# EAGLE library part LT1370HVCT7 (library TOPOBOT)
LT1370HVCT7 Componente LT1370HVCT7
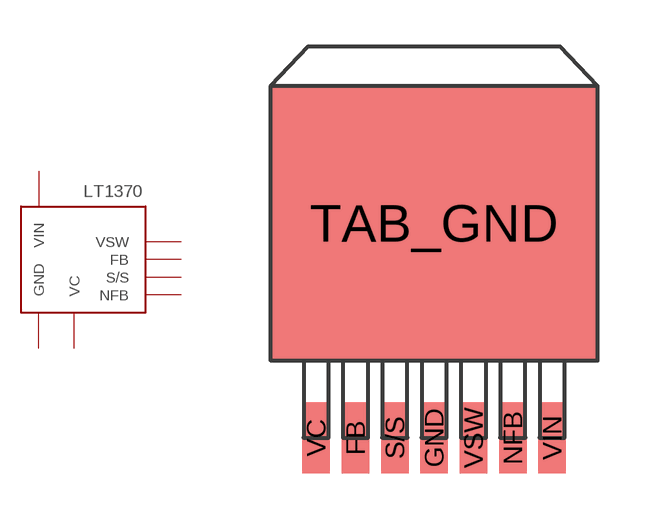
[diagram p0: symbol with the pads of LT1370HVCT7; footprint LT1370HVCT7]

Designator prefix -

## LT1370HVCT7  [LT1370HVCT7]
FB  FB
GND  GND
NFB  NFB
S/S  S/S
TAB_GND  GND
VC  VC
VIN  VIN
VSW  VSW

## Footprint LT1370HVCT7 (pad centres in mm)
DD Q7 Empaquetado DD Q7 del componente LT1370HVCT7
smd 0.889 x 2.286: FB -2.54,0; GND 0,0; NFB 2.54,0; S/S -1.27,0; VC -3.81,0; VIN 3.81,0; VSW 1.27,0
smd 10.668 x 8.89: TAB_GND 0,6.934